# EAGLE library part AMUX8P (library Keyboard Analog)
8-channel analog multiplexer/demultiplexer
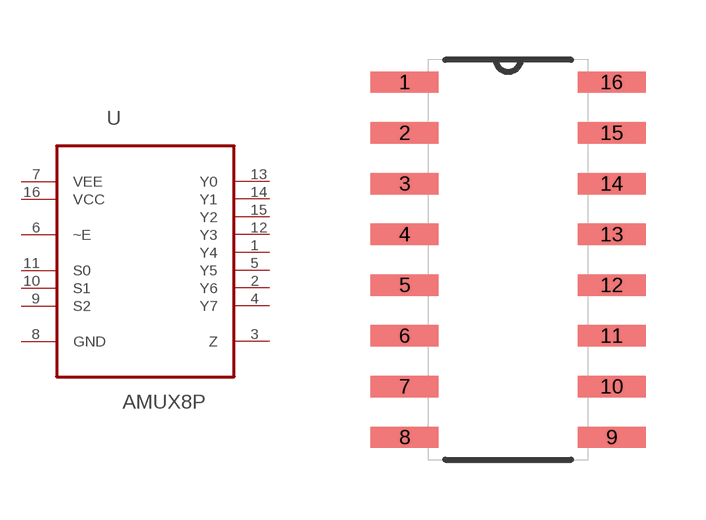
[diagram p0: symbol with the pads of SOIC127P600X175-16N; footprint SOIC127P600X175-16N]

Designator prefix U

## AMUX8P (CHECK_PRICES: https://www.snapeda.com/parts/74HC4051D/Toshiba+Semiconductor+and+Storage/view-part/?ref=eda; DESCRIPTION: Analog Multiplexer Single 8: 1 16-Pin SO; MF: Toshiba Semiconductor; MP: 74HC4051D; PACKAGE: SOIC-16 ON Semiconductor; RS_COMPONENTS_1713392_PURCHASE_URL: https://www.snapeda.com/api/url_track_click/https%253A//uk.rs-online.com/web/p/multiplexer-demultiplexer-ics/1713392//%253Fcm_mmc%253Daff-_-uk-_-snapeda-_-1713392/?unipart_id=1041477&manufacturer=Toshiba Semiconductor&part_name=74HC4051D&search_term=74hc4051; RS_COMPONENTS_1713605P_PURCHASE_URL: https://www.snapeda.com/api/url_track_click/https%253A//uk.rs-online.com/web/p/multiplexer-demultiplexer-ics/1713605p//%253Fcm_mmc%253Daff-_-uk-_-snapeda-_-1713605P/?unipart_id=1041477&manufacturer=Toshiba Semiconductor&part_name=74HC4051D&search_term=74hc4051; RS_COMPONENTS_1713605_PURCHASE_URL: https://www.snapeda.com/api/url_track_click/https%253A//uk.rs-online.com/web/p/multiplexer-demultiplexer-ics/1713605//%253Fcm_mmc%253Daff-_-uk-_-snapeda-_-1713605/?unipart_id=1041477&manufacturer=Toshiba Semiconductor&part_name=74HC4051D&search_term=74hc4051; SNAPEDA_LINK: https://www.snapeda.com/parts/74HC4051D/Toshiba+Semiconductor+and+Storage/view-part/?ref=snap)  [SOIC127P600X175-16N]
1  Y4
2  Y6
3  Z
4  Y7
5  Y5
6  ~E  in
7  VEE  pwr
8  GND  pas
9  S2  in
10  S1  in
11  S0  in
12  Y3
13  Y0
14  Y1
15  Y2
16  VCC  pwr

## Footprint SOIC127P600X175-16N (pad centres in mm)
smd 1.702 x 0.533: 1 -2.591,4.445; 2 -2.591,3.175; 3 -2.591,1.905; 4 -2.591,0.635; 5 -2.591,-0.635; 6 -2.591,-1.905; 7 -2.591,-3.175; 8 -2.591,-4.445; 9 2.591,-4.445; 10 2.591,-3.175; 11 2.591,-1.905; 12 2.591,-0.635; 13 2.591,0.635; 14 2.591,1.905; 15 2.591,3.175; 16 2.591,4.445